# Altium footprint library WURTH_696103201002.PcbLib: 1 footprints
Each footprint in its own frame and in the unit in brackets; x right, y up, seen from the top. Pads: shape width x height; smd on the part's side, far side on the other; paste and mask are expansions set on the pad; w line width, h text height; cw(c..) or ccw(c..) is an arc to the next point about the centre after c.
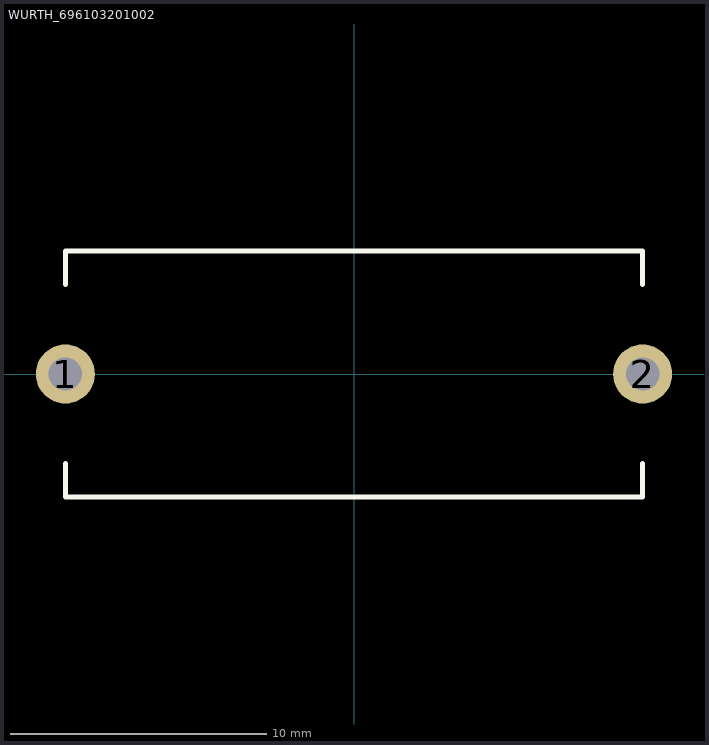
[diagram p0: the footprint, top view; thin cyan lines are the x and y axes]

## WURTH_696103201002 [mm] "Wurth 5mm x 20mm Fuse Holder"
pads (2):
  round 2.3 hole 1.3: 1(-11.25,0) 2(11.25,0)
Top Overlay:
  lines w0.2: -11.25,-3.5 -11.25,-4.8 11.25,-4.8 11.25,-3.5 ; -11.25,3.5 -11.25,4.8 11.25,4.8 11.25,3.5
3D body "Wurth_fuse_holder.SLDPRT": height 11.5, standoff 0, extent -11.225,-4.8 11.275,4.8